# EAGLE library part DAC5574 (library tide_clock)
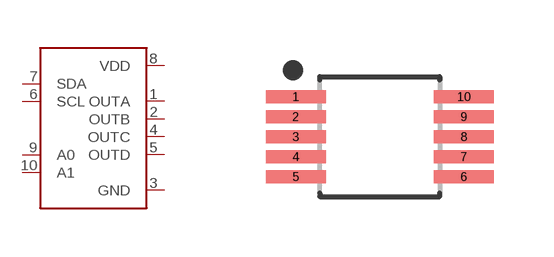
[diagram p15: symbol with the pads of SOP50P490X110-10; footprint SOP50P490X110-10]

Designator prefix U

## DAC5574  [SOP50P490X110-10]
1  OUTA
2  OUTB
3  GND
4  OUTC
5  OUTD
6  SCL
7  SDA
8  VDD
9  A0
10  A1

## Footprint SOP50P490X110-10 (pad centres in mm)
10-SOP, 0.50 mm pitch, 4.90 mm span, 3.00 X 3.00 X 1.10 mm body 10-pin SOP package with 0.50 mm pitch, 4.90 mm span with body size 3.00 X 3.00 X 1.10 mm
smd 1.503 x 0.322: 1 -2.104,1; 2 -2.104,0.5; 3 -2.104,0; 4 -2.104,-0.5; 5 -2.104,-1; 6 2.104,-1; 7 2.104,-0.5; 8 2.104,0; 9 2.104,0.5; 10 2.104,1